# Altium schematic symbol library EDH106M250A9RAA.SchLib: 1 symbol
Pins are listed as number, name and electrical type; pins without a type are passive.

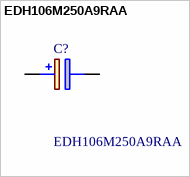
[diagram p0: symbol EDH106M250A9RAA]

## EDH106M250A9RAA
designator C?
EDH, Aluminum, Aluminum Electrolytic, 10 uF, 20%, 250 VDC, -25/+105C, 105C, -25C, 105C, 2,000 Hrs, 20 % , 0.07, 25 uA, 4, 12.5mm, 13.5mm, 200; Manufacturer_Name: KEMET; Geometry.Height: 14mm; Mouser Part Number: 80-EDH106M250A9RAA; Mouser Price/Stock: https://www.mouser.co.uk/ProductDetail/KEMET/EDH106M250A9RAA?qs=E9QF1UCAUX55reBJyyPNhA%3D%3D; Manufacturer_Part_Number: EDH106M250A9RAA; Datasheet Link: https://content.kemet.com/datasheets/KEM_A4049_EDH.pdf
footprint CAPAE1280X1400N
pins: 1 +, 2 -